# EAGLE library part 2129320-3 (library CONNECTORs)
DisplayPort, Mini Receptacle Connector 20 Position Through Hole, Right Angle
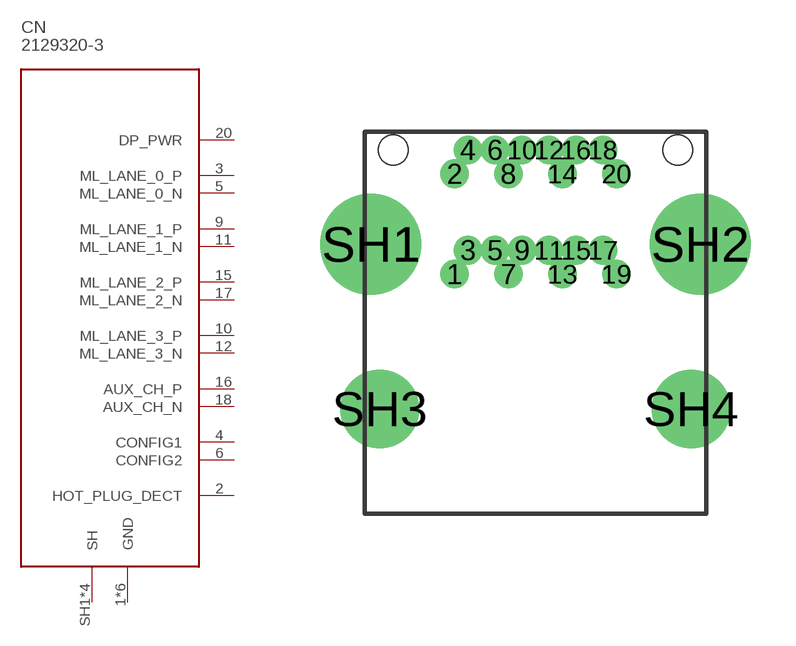
[diagram p52: symbol with the pads of 2129320-3; footprint 2129320-3]

Designator prefix CN

## 2129320-3 (DIGIKEY: A120537CT-ND; HEIGHT: 6; PRICE_PER: 1.81; VALUE: Mini Displayport)  [2129320-3]
1  GND
2  HOT_PLUG_DECT
3  ML_LANE_0_P
4  CONFIG1
5  ML_LANE_0_N
6  CONFIG2
7  GND
8  GND
9  ML_LANE_1_P
10  ML_LANE_3_P
11  ML_LANE_1_N
12  ML_LANE_3_N
13  GND
14  GND
15  ML_LANE_2_P
16  AUX_CH_P
17  ML_LANE_2_N
18  AUX_CH_N
19  GND
20  DP_PWR
SH1  SH
SH2  SH
SH3  SH
SH4  SH

## Footprint 2129320-3 (pad centres in mm)
drill 0.45 pad 0.75: 1 -2.7,4.5; 2 -2.7,7.85; 3 -2.25,5.3; 4 -2.25,8.65; 5 -1.35,5.3; 6 -1.35,8.65; 7 -0.9,4.5; 8 -0.9,7.85; 9 -0.45,5.3; 10 -0.45,8.65; 11 0.45,5.3; 12 0.45,8.65; 13 0.9,4.5; 14 0.9,7.85; 15 1.35,5.3; 16 1.35,8.65; 17 2.25,5.3; 18 2.25,8.65; 19 2.7,4.5; 20 2.7,7.85
drill 2.35: SH1 -5.5,5.5; SH2 5.5,5.5
drill 1.75: SH3 -5.2,0; SH4 5.2,0
hole 1 at -4.75,8.65
hole 1 at 4.75,8.65